# EAGLE library part DRDC3105 (library balto)
Integrated relay and inductive load driver https://www.mouser.ie/datasheet/2/115/DRDC3105-219294.pdf
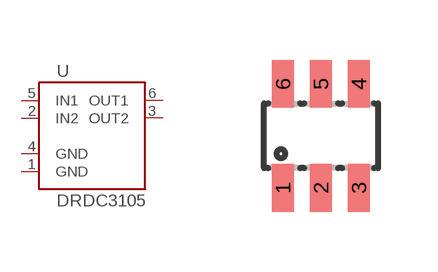
[diagram p56: symbol with the pads of SOT23-6L; footprint SOT23-6L]

Designator prefix U

## DRDC3105  [SOT23-6L]
1  GND
2  IN2
3  OUT2
4  GND
5  IN1
6  OUT1

## Footprint SOT23-6L (pad centres in mm)
Small Outline Transistor
smd 0.55 x 1.2: 1 -0.95,-1.3; 2 0,-1.3; 3 0.95,-1.3; 4 0.95,1.3; 5 0,1.3; 6 -0.95,1.3